# EAGLE library part ISP1581B (library philips-6)
ISP1581 Hi-Speed Universal Serial Bus peripheral controller
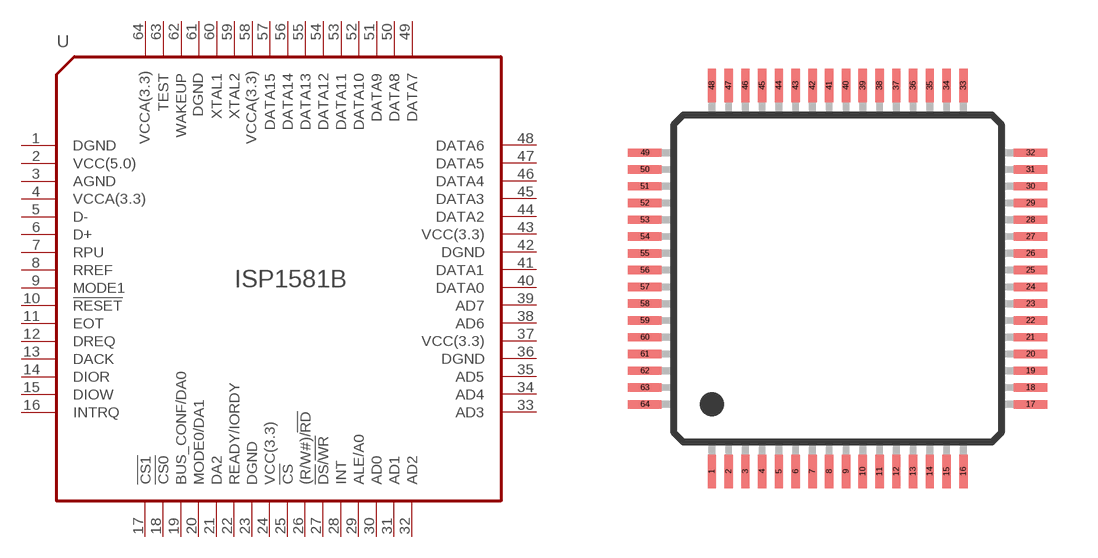
[diagram p35: symbol with the pads of LQFP64; footprint LQFP64]

Designator prefix U

## ISP1581B  [LQFP64]
1  DGND  pwr
2  VCC(5.0)  pwr
3  AGND  pwr
4  VCCA(3.3)
5  D-
6  D+
7  RPU
8  RREF
9  MODE1
10  !RESET!
11  EOT
12  DREQ
13  DACK
14  DIOR
15  DIOW
16  INTRQ
17  !CS1!
18  !CS0!
19  BUS_CONF/DA0
20  MODE0/DA1
21  DA2
22  READY/IORDY
23  DGND  pwr
24  VCC(3.3)  pwr
25  !CS!
26  (R/W#)/!RD!
27  !DS!/!WR!
28  INT
29  ALE/A0
30  AD0
31  AD1
32  AD2
33  AD3
34  AD4
35  AD5
36  DGND  pwr
37  VCC(3.3)
38  AD6
39  AD7
40  DATA0
41  DATA1
42  DGND  pwr
43  VCC(3.3)
44  DATA2
45  DATA3
46  DATA4
47  DATA5
48  DATA6
49  DATA7
50  DATA8
51  DATA9
52  DATA10
53  DATA11
54  DATA12
55  DATA13
56  DATA14
57  DATA15
58  VCC(3.3)
59  XTAL2  out
60  XTAL1  in
61  DGND  pwr
62  WAKEUP
63  TEST
64  VCC(3.3)

## Footprint LQFP64 (pad centres in mm)
LQFP64
smd 0.25 x 1: 1 -3.75,-5.75; 2 -3.25,-5.75; 3 -2.75,-5.75; 4 -2.25,-5.75; 5 -1.75,-5.75; 6 -1.25,-5.75; 7 -0.75,-5.75; 8 -0.25,-5.75; 9 0.25,-5.75; 10 0.75,-5.75; 11 1.25,-5.75; 12 1.75,-5.75; 13 2.25,-5.75; 14 2.75,-5.75; 15 3.25,-5.75; 16 3.75,-5.75; 33 3.75,5.75; 34 3.25,5.75; 35 2.75,5.75; 36 2.25,5.75; 37 1.75,5.75; 38 1.25,5.75; 39 0.75,5.75; 40 0.25,5.75; 41 -0.25,5.75; 42 -0.75,5.75; 43 -1.25,5.75; 44 -1.75,5.75; 45 -2.25,5.75; 46 -2.75,5.75; 47 -3.25,5.75; 48 -3.75,5.75
smd 1 x 0.25: 17 5.75,-3.75; 18 5.75,-3.25; 19 5.75,-2.75; 20 5.75,-2.25; 21 5.75,-1.75; 22 5.75,-1.25; 23 5.75,-0.75; 24 5.75,-0.25; 25 5.75,0.25; 26 5.75,0.75; 27 5.75,1.25; 28 5.75,1.75; 29 5.75,2.25; 30 5.75,2.75; 31 5.75,3.25; 32 5.75,3.75; 49 -5.75,3.75; 50 -5.75,3.25; 51 -5.75,2.75; 52 -5.75,2.25; 53 -5.75,1.75; 54 -5.75,1.25; 55 -5.75,0.75; 56 -5.75,0.25; 57 -5.75,-0.25; 58 -5.75,-0.75; 59 -5.75,-1.25; 60 -5.75,-1.75; 61 -5.75,-2.25; 62 -5.75,-2.75; 63 -5.75,-3.25; 64 -5.75,-3.75